# Altium footprint library head1.5mm_4p.PcbLib: 1 footprints
Each footprint in its own frame and in the unit in brackets; x right, y up, seen from the top. Pads: shape width x height; smd on the part's side, far side on the other; paste and mask are expansions set on the pad; w line width, h text height; cw(c..) or ccw(c..) is an arc to the next point about the centre after c.
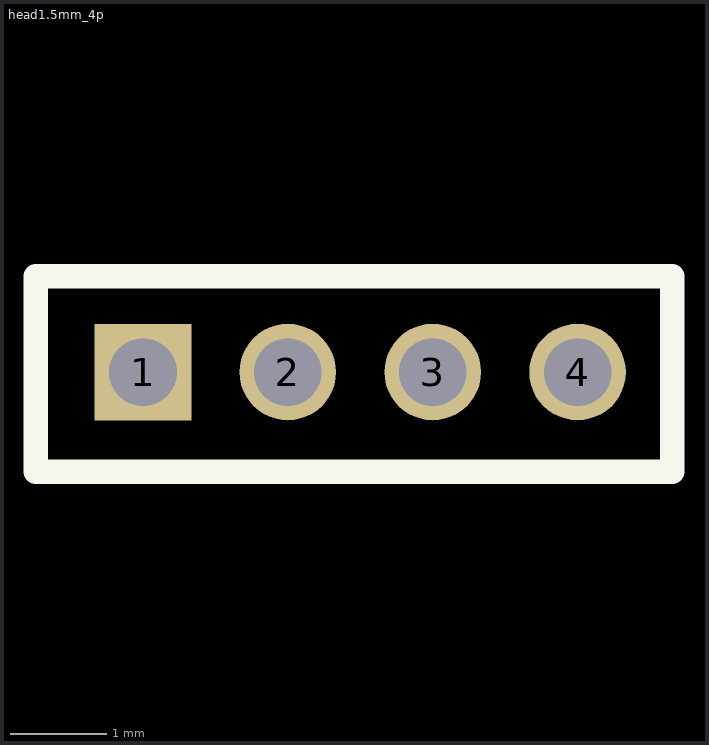
[diagram p0: the footprint, top view; thin cyan lines are the x and y axes]

## head1.5mm_4p [mm]
pads (4):
  rect 1x1 hole 0.7: 1(4.68,4.71)
  round 1 hole 0.7: 2(6.18,4.71) 3(7.68,4.71) 4(9.18,4.71)
Top Overlay:
  lines w0.254: 3.57,3.68 3.57,5.7 10.16,5.7 10.16,3.68 3.57,3.68